# Altium footprint library Altium LCOGT PCB LIB.PCBLIB: 329 footprints (part 15 of 21)
Each footprint in its own frame and in the unit in brackets; x right, y up, seen from the top. Pads: shape width x height; smd on the part's side, far side on the other; paste and mask are expansions set on the pad; w line width, h text height; cw(c..) or ccw(c..) is an arc to the next point about the centre after c.
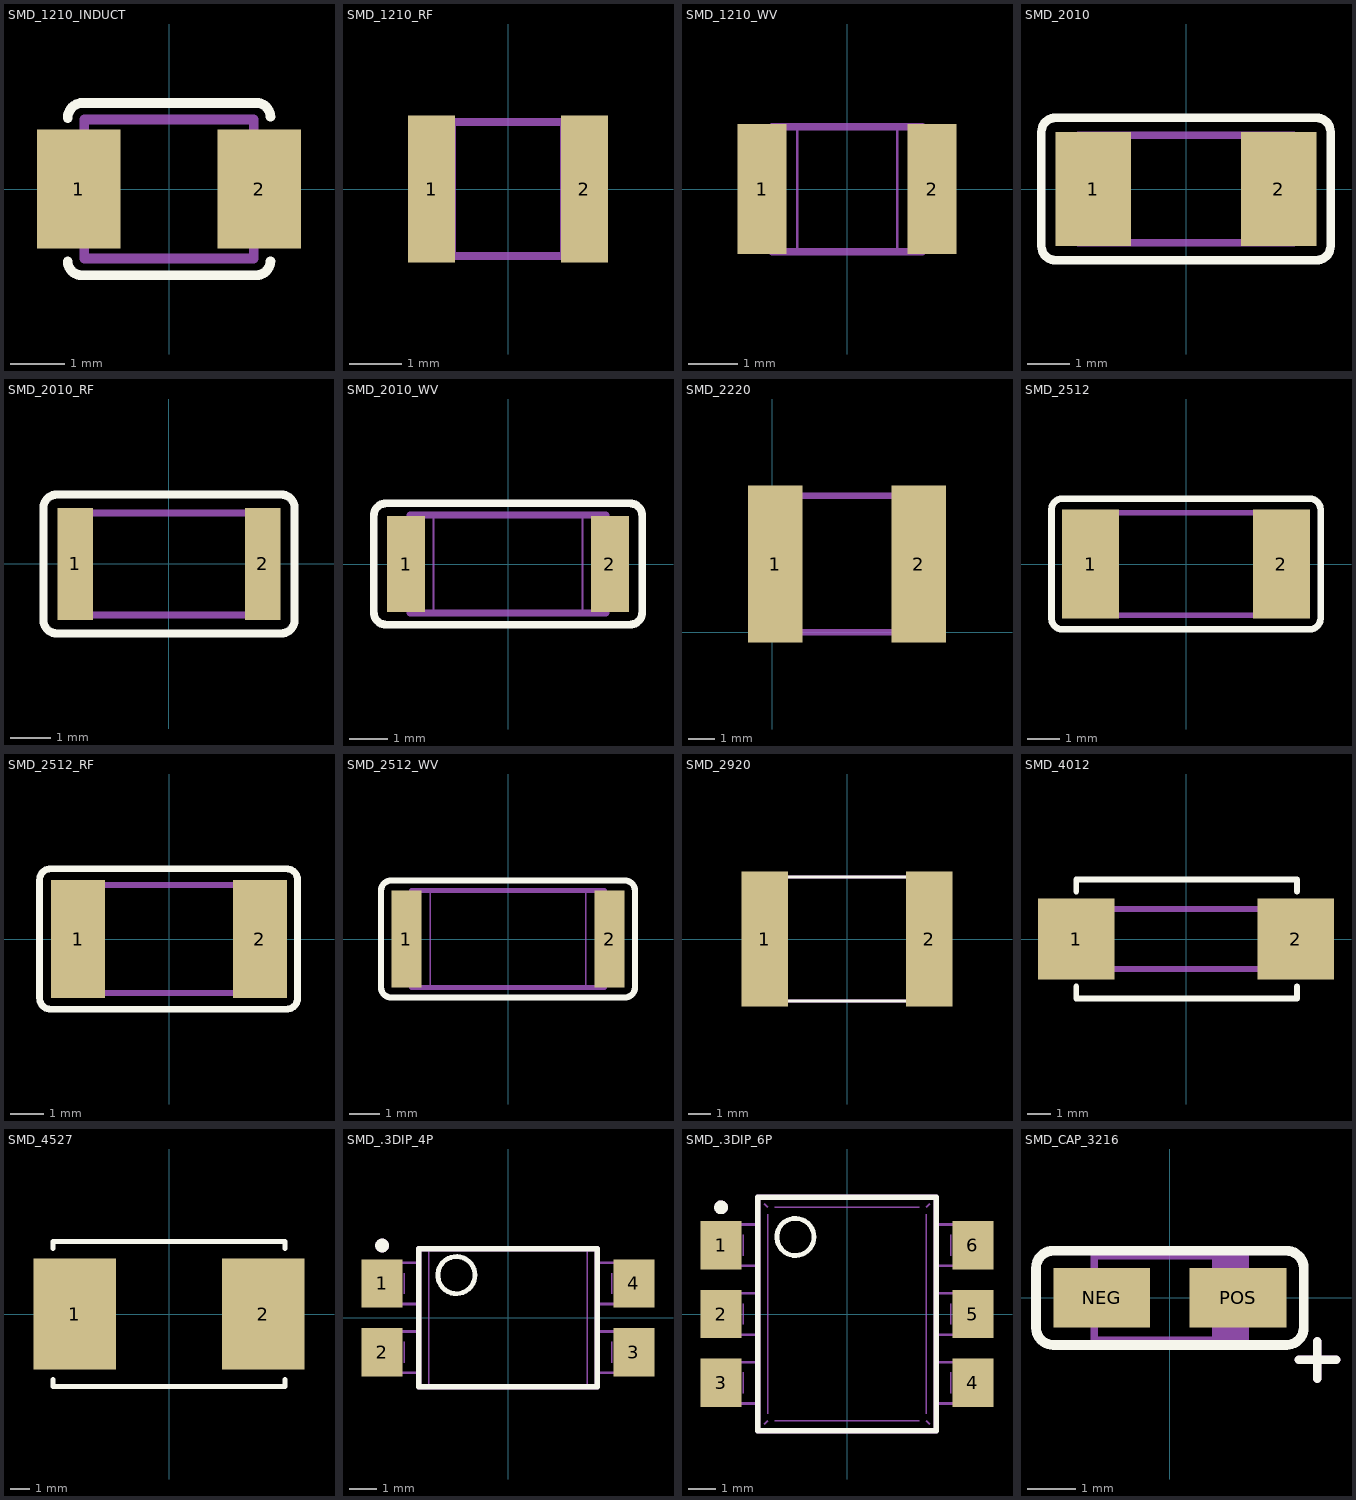
[diagram p14: the footprints below, top view; thin cyan lines are the x and y axes]

## SMD_1210_INDUCT [mil]
pads (2):
  rect 60x86 smd: 1(-65,0) 2(65,0)
TopOverlay:
  lines w7: -73,-52 ccw(c-63,-52) -63,-62 63,-62 ccw(c63,-52) 73,-52 ; -73,51 cw(c-62,51) -62,62 63,62 cw(c63,52) 73,52
Mechanical3:
  lines w4: -61,-37 -66,-37 -66,37 -61,37 ; 61,-37 66,-37 66,37 61,37
  lines w7: -61,-50 61,-50 61,50 -61,50 -61,-50

## SMD_1210_RF [mil]
pads (2):
  rect 35x110 smd: 1(-57,0) 2(57,0)
Mechanical3:
  lines w2: -40,-50 -40,50 ; 40,-50 40,50
  lines w6: -60,-50 -60,50 60,50 60,-50 -60,-50

## SMD_1210_WV [mil]
pads (2):
  rect 39x104 smd: 1(-68,0) 2(68,0)
Mechanical3:
  lines w2: -40,-50 -40,50 ; 40,-50 40,50
  lines w6: -60,-50 -60,50 60,50 60,-50 -60,-50

## SMD_2010 [mil]
pads (2):
  rect 70x106 smd: 1(-86,0) 2(86,0)
TopOverlay:
  lines w8: -134,-53 ccw(c-121,-53) -121,-66 121,-66 ccw(c121,-53) 134,-53 134,53 ccw(c121,53) 121,66 -121,66 ccw(c-121,53) -134,53 -134,-53
Mechanical3:
  lines w2: -76,-50 -76,50 ; 76,-50 76,50
  lines w7: -100,-50 100,-50 100,50 -100,50 -100,-50

## SMD_2010_RF [mil]
pads (2):
  rect 35x110 smd: 1(-92,0) 2(92,0)
TopOverlay:
  lines w8: -123,-55 ccw(c-110,-55) -110,-68 110,-68 ccw(c110,-55) 123,-55 123,55 ccw(c110,55) 110,68 -110,68 ccw(c-110,55) -123,55 -123,-55
Mechanical3:
  lines w2: -76,-50 -76,50 ; 76,-50 76,50
  lines w7: -100,-50 -100,50 100,50 100,-50 -100,-50

## SMD_2010_WV [mil]
pads (2):
  rect 39x98 smd: 1(-104,0) 2(104,0)
TopOverlay:
  lines w8: -137,-49 ccw(c-124,-49) -124,-62 124,-62 ccw(c124,-49) 137,-49 137,49 ccw(c124,49) 124,62 -124,62 ccw(c-124,49) -137,49 -137,-49
Mechanical3:
  lines w2: -76,-50 -76,50 ; 76,-50 76,50
  lines w7: -100,-50 100,-50 100,50 -100,50 -100,-50

## SMD_2220 [mil]
pads (2):
  rect 80x230 smd: 1(5,100) 2(215,100)
Mechanical3:
  lines w10: 30,0 0,0 0,200 30,200 ; 30,0 30,200 ; 30,0 190,0 ; 30,200 190,200 ; 190,0 220,0 220,200 190,200 ; 190,0 190,200

## SMD_2512 [mil]
pads (2):
  rect 70x134 smd: 1(-117,0) 2(117,0)
TopOverlay:
  lines w8: -165,-67 ccw(c-152,-67) -152,-80 152,-80 ccw(c152,-67) 165,-67 165,67 ccw(c152,67) 152,80 -152,80 ccw(c-152,67) -165,67 -165,-67
Mechanical3:
  lines w2: -101,-63 -101,63 ; 101,-63 101,63
  lines w7: -125,-63 -125,63 125,63 125,-63 -125,-63

## SMD_2512_RF [mil]
pads (2):
  rect 63x138 smd: 1(-106,0) 2(106,0)
TopOverlay:
  lines w8: -151,-69 ccw(c-138,-69) -138,-82 137,-82 ccw(c137,-69) 150,-69 150,69 ccw(c137,69) 137,82 -138,82 ccw(c-138,69) -151,69 -151,-69
Mechanical3:
  lines w2: -101,-63 -101,63 ; 101,-63 101,63
  lines w7: -125,-63 -125,63 125,63 125,-63 -125,-63

## SMD_2512_WV [mil]
pads (2):
  rect 39x126 smd: 1(-132,0) 2(132,0)
TopOverlay:
  lines w8: -165,-63 ccw(c-152,-63) -152,-76 152,-76 ccw(c152,-63) 165,-63 165,63 ccw(c152,63) 152,76 -152,76 ccw(c-152,63) -165,63 -165,-63
Mechanical3:
  lines w2: -101,-63 -101,63 ; 101,-63 101,63
  lines w7: -125,-63 125,-63 125,63 -125,63 -125,-63

## SMD_2920 [mil]
pads (2):
  rect 82.5x240 smd: 1(-146.25,0) 2(146.25,0)
TopOverlay:
  lines w5: -160,-85 -160,-110 160,-110 160,-85 ; -160,85 -160,110 160,110 160,85
Mechanical3:
  lines w5: -160,-50 -130,-50 -130,50 -160,50 ; 160,-50 130,-50 130,50 160,50 ; -160,-110 -160,0 -160,110 160,110 160,-110 -160,-110

## SMD_4012 [mil]
pads (2):
  rect 128x135 smd: 1(-184,0) 2(184,0)
TopOverlay:
  lines w10: -184,-80 -184,-100 186,-100 186,-80 ; -184,80 -184,100 186,100 186,80
Mechanical3:
  lines w10: -135,-50 135,-50 ; -135,-50 -135,50 ; -135,-50 -135,-62 -202,-62 -202,62 -135,62 -135,50 ; -135,-50 -135,50 ; -135,50 0,50 135,50 ; 135,-50 135,50 ; 135,-50 135,-62 202,-62 202,62 135,62 135,50

## SMD_4527 [mil]
pads (2):
  rect 170x230 smd: 1(-195,0) 2(195,0)
TopOverlay:
  lines w10: -240,-135 -240,-150 240,-150 240,-135 ; -240,135 -240,150 240,150 240,135

## SMD_.3DIP_4P [mil]
pads (4):
  rect 60x70 smd: 1(-183,50) 2(-183,-50) 3(183,-50) 4(183,50)
TopOverlay:
  circle w8: c-183,105 r6
  circle w7: c-75,62 r27
  lines w8: -187,105 -179,105 ; -183,101 -183,109 ; -130,-100 130,-100 130,100 -130,100 -130,-100
Mechanical3:
  circle w8: c-183,105 r6
  circle w4: c-75,62 r27
  lines w2: -165,-55 -165,-45 ; -165,45 -165,55 ; -151,-65 -151,-35 ; -151,35 -151,65 ; -115,-100 -115,100 ; 115,-100 115,100 ; 151,-65 151,-35 ; 151,35 151,65 ; 165,-55 165,-45 ; 165,45 165,55
  lines w4: -130,-80 -158,-80 -171,-60 -195,-60 -195,-40 -171,-40 -159,-20 -130,-20 ; -130,20 -158,20 -171,40 -195,40 -195,60 -171,60 -159,80 -130,80 ; 130,-80 158,-80 171,-60 195,-60 195,-40 171,-40 159,-20 130,-20 ; 130,20 158,20 171,40 195,40 195,60 171,60 159,80 130,80
  lines w8: -187,105 -179,105 ; -183,101 -183,109 ; -130,-100 -130,100 130,100 130,-100 -130,-100

## SMD_.3DIP_6P [mil]
pads (6):
  rect 60x70 smd: 1(-183,100) 2(-183,0) 3(-183,-100) 4(183,-100) 5(183,0) 6(183,100)
TopOverlay:
  circle w7: c-75,112 r27
  circle w8: c-183,155 r6
  lines w8: -187,155 -179,155 ; -183,151 -183,159 ; -130,-170 -130,170 130,170 130,-170 -130,-170
Mechanical3:
  circle w4: c-75,112 r27
  circle w8: c-183,155 r6
  lines w2: -165,-105 -165,-95 ; -165,-5 -165,5 ; -165,95 -165,105 ; -151,-115 -151,-85 ; -151,-15 -151,15 ; -151,85 -151,115 ; -120,-160 -115,-155 ; -120,160 -115,155 ; -115,-145 -115,145 ; -105,-155 105,-155 ; -105,155 105,155 ; 115,-155 120,-160 ; 115,-145 115,145 ; 115,155 120,160 ; 151,-115 151,-85 ; 151,-15 151,15 ; 151,85 151,115 ; 165,-105 165,-95 ; 165,-5 165,5 ; 165,95 165,105
  lines w4: -130,-130 -158,-130 -171,-110 -195,-110 -195,-90 -171,-90 -159,-70 -130,-70 ; -130,-30 -158,-30 -171,-10 -195,-10 -195,10 -171,10 -159,30 -130,30 ; -130,70 -158,70 -171,90 -195,90 -195,110 -171,110 -159,130 -130,130 ; 130,-130 158,-130 171,-110 195,-110 195,-90 171,-90 159,-70 130,-70 ; 130,-30 158,-30 171,-10 195,-10 195,10 171,10 159,30 130,30 ; 130,70 158,70 171,90 195,90 195,110 171,110 159,130 130,130
  lines w8: -187,155 -179,155 ; -183,151 -183,159 ; -130,-170 130,-170 130,170 -130,170 -130,-170

## SMD_CAP_3216 [mil]
pads (2):
  rect 78x48 smd: NEG(-55,0) POS(55,0)
TopOverlay:
  lines w7: 104,-50 134,-50 ; 119,-65 119,-35
  lines w8: -108,-24 ccw(c-94,-24) -94,-38 94,-38 ccw(c94,-24) 108,-24 108,24 ccw(c94,24) 94,38 -94,38 ccw(c-94,24) -108,24 -108,-24
Mechanical3:
  rectangle: 36,-34 61,34
  lines w4: -61,-21 -66,-21 -66,21 -61,21 ; 36,-34 36,34 ; 61,-21 66,-21 66,21 61,21
  lines w6: -61,-34 -61,34 61,34 61,-34 -61,-34
  lines w7: 104,-50 134,-50 ; 119,-65 119,-35